# EAGLE library part EHS104LD (library EHS104LD)
4 Position DIP Switch Source: Datasheet <http://akizukidenshi.com/download/ds/excelcell/ehs.pdf>
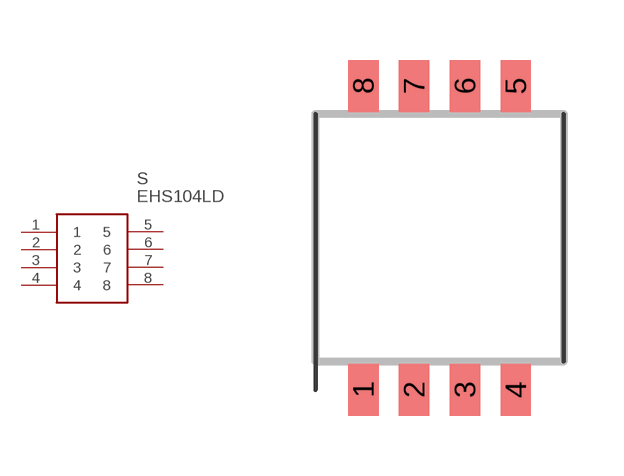
[diagram p0: symbol with the pads of EHS104LD; footprint EHS104LD]

Designator prefix S

## EHS104LD (Description: 4 Position DIP Switch; Height: 1mm; Manufacturer_Name: ECE; Manufacturer_Part_Number: EHS104LD)  [EHS104LD]
1  1
2  2
3  3
4  4
5  5
6  6
7  7
8  8

## Footprint EHS104LD (pad centres in mm)
EHS104
smd 0.76 x 1.3: 1 -5.08,0.01; 2 -3.81,0.01; 3 -2.54,0.01; 4 -1.27,0.01; 5 -1.27,7.61; 6 -2.54,7.61; 7 -3.81,7.61; 8 -5.08,7.61